# Altium footprint library PcbLib1.PcbLib: 5 footprints
Each footprint in its own frame and in the unit in brackets; x right, y up, seen from the top. Pads: shape width x height; smd on the part's side, far side on the other; paste and mask are expansions set on the pad; w line width, h text height; cw(c..) or ccw(c..) is an arc to the next point about the centre after c.
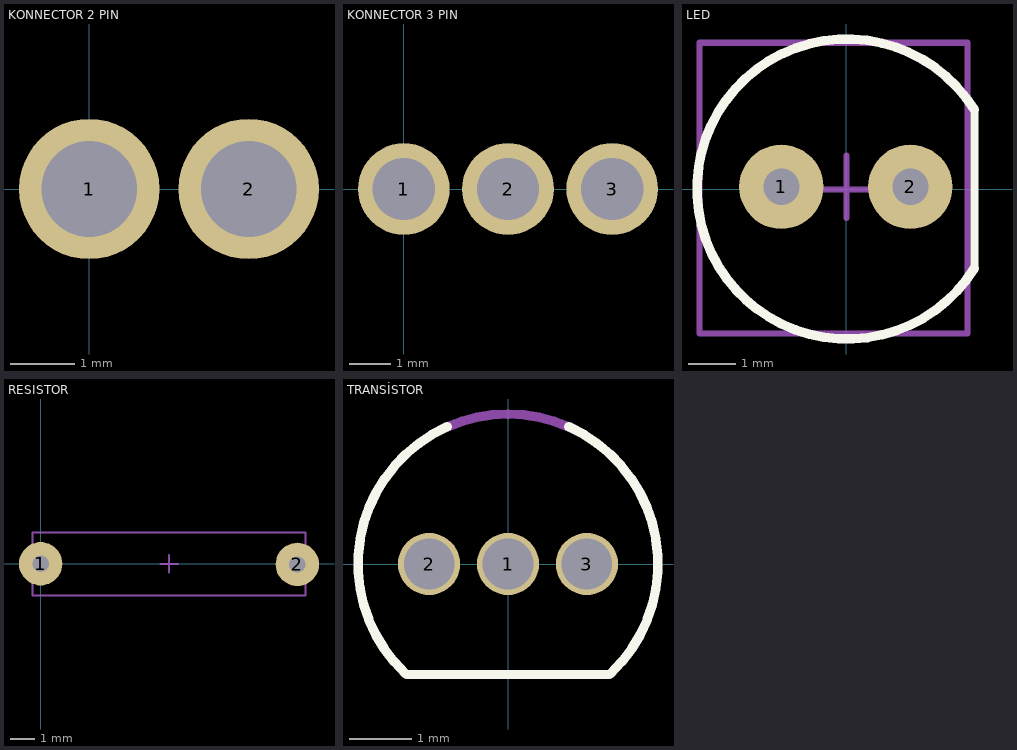
[diagram p0: the footprints below, top view; thin cyan lines are the x and y axes]

## KONNECTOR 2 PIN [mm]
pads (2):
  round 2.2 hole 1.5 mask+0.05: 1(0,0) 2(2.5,0)
3D body "Female Pin Header.step": height 9.27, standoff -2.73, extent 1.29,-1.25 3.79,1.25
3D body "Female Pin Header.step": height 9.27, standoff -2.73, extent -1.25,-1.25 1.25,1.25

## KONNECTOR 3 PIN [mm]
pads (3):
  round 2.2 hole 1.5 mask+0.05: 1(0,0) 2(2.5,0) 3(5,0)
3D body "Female Pin Header.step": height 9.27, standoff -2.73, extent 3.83,-1.25 6.33,1.25
3D body "Female Pin Header.step": height 9.27, standoff -2.73, extent -1.25,-1.25 1.25,1.25
3D body "Female Pin Header.step": height 9.27, standoff -2.73, extent 1.29,-1.25 3.79,1.25

## LED [mil]
pads (2):
  round 70 hole 30 mask+1.97: 1(-53.85,2.06) 2(53.15,2.06)
Top Overlay:
  lines w7: 106.18,66.02 106.33,66.02 106.33,-65.29
  lines w7.87: 106.18,66.02 ccw(c0.59,0.24) 106.33,-65.29
Bottom Designator:
  lines w5: -121.77,-119.5 100.46,-119.5 100.46,121.52 -121.77,121.52 -121.77,-119.5
  text ".Designator" at -84.17,-10.24 h30
Top 3D Body:
  lines w5: -121.77,-119.5 100.46,-119.5 100.46,121.52 -121.77,121.52 -121.77,-119.5
Bottom Component Center:
  lines w5: -25.41,0 26.36,0 ; 0,-23.72 0,28.05 ; -121.77,-119.5 100.46,-119.5 100.46,121.52 -121.77,121.52 -121.77,-119.5
3D body "LED 5mm.STEP": height 389.84, standoff -1019.61, extent -119.01,-116.73 97.53,118.74

## RESISTOR [mil]
pads (2):
  round 70 hole 26 mask+1.97: 1(0,0) 2(414,-1)
Bottom Designator:
  lines w3: -13,-50.99 427.07,-50.99 427.07,50.46 -13,50.46 -13,-50.99
  text ".Designator" at 49.15,-16.95 h50
Top 3D Body:
  lines w3: -13,-50.99 -13,50.46 427.07,50.46 427.07,-50.99 -13,-50.99
Bottom Component Center:
  lines w3: 193.2,-0.42 221.42,-0.42 ; 207.08,-14.27 207.08,13.95 ; -13,-51.25 -13,50.2 427.07,50.2 427.07,-51.25 -13,-51.25
3D body "Resistor0.25W.STEP": height 132.9, standoff -112.88, extent -11.5,-49.42 425.51,49

## TRANSİSTOR [mm]
pads (3):
  round 1 hole 0.813: 1(0,0) 2(-1.27,0) 3(1.27,0)
Top Overlay:
  lines w0.152: -1.645,-1.765 cw(c0,0) -0.981,2.204 ; -1.631,-1.778 1.631,-1.778 ; 0.981,2.204 cw(c0,0) 1.645,-1.765
Mechanical 13:
  lines w0.152: -0.981,2.204 cw(c0,0) 0.981,2.204
3D body "step_temp.STEP": height 5.34, standoff -4.06, extent -2.395,-1.533 2.395,2.4